# Altium schematic symbol library HUSB238.SchLib: 1 symbol
Pins are listed as number, name and electrical type; pins without a type are passive.

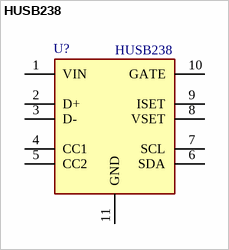
[diagram p0: symbol HUSB238]

## HUSB238
designator U?
USB Type-C Power Delivery Sink; Manufacturer_Name: Hynetek; Geometry.Height: 0.8mm; Manufacturer_Part_Number: HUSB238; Mouser Part Number: *; Mouser Price/Stock: *; Arrow Part Number: *; Arrow Price/Stock: *; Datasheet Link: https://en.hynetek.com/uploadfiles/site/219/news/4459b599-ce6b-4d92-83cc-13212cca0672.pdf
footprint SON50P300X300X80-11N-D
pins: 1 VIN, 2 D+, 3 D-, 4 CC1, 5 CC2, 6 SDA, 7 SCL, 8 VSET, 9 ISET, 10 GATE, 11 GND